# Altium schematic symbol library Schlib1.SchLib: 4 symbols
Pins are listed as number, name and electrical type; pins without a type are passive.

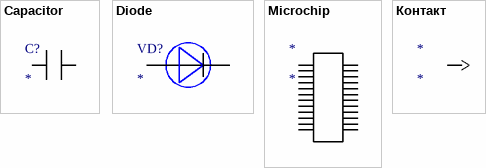
[diagram p0: symbols Capacitor to Контакт]

## Capacitor
designator C?
footprint Model Name (Footprint not found)
pins: 0, 1

## Diode
designator VD?
pins: 0, 1

## Microchip
designator *
pins: 0, 1, 2, 3, 4, 5, 6, 7, 8, 9, 10, 11, 12, 13, 14, 15, 16, 17, 18, 19, 20, 21, 22, 23

## Контакт
designator *
pins: 0